# EAGLE library part XTR115 (library untitled)
4-20mA CURRENT LOOP TRANSMITTERS VREF FOR SENSOR EXCITATION: XTR115: 2.5V
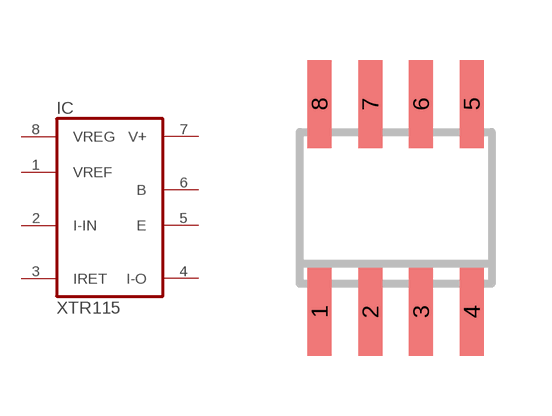
[diagram p1: symbol with the pads of SO8; footprint SO8]

Designator prefix IC

## XTR115  [SO8]
1  VREF  pas
2  I-IN  in
3  IRET  in
4  I-O  out
5  E  out
6  B  out
7  V+  pwr
8  VREG  out

## Footprint SO8 (pad centres in mm)
8-Lead Small Outline IC (SO-8) Source: http://www.analog.com/UploadedFiles/Data_Sheets/703465986AD8611_2_0.pdf
smd 0.6 x 2.2: 1 -1.905,-2.6; 2 -0.635,-2.6; 3 0.635,-2.6; 4 1.905,-2.6; 5 1.905,2.6; 6 0.635,2.6; 7 -0.635,2.6; 8 -1.905,2.6